# EAGLE library part PINHD-2X14 (library h8-pinhead)
PIN HEADER
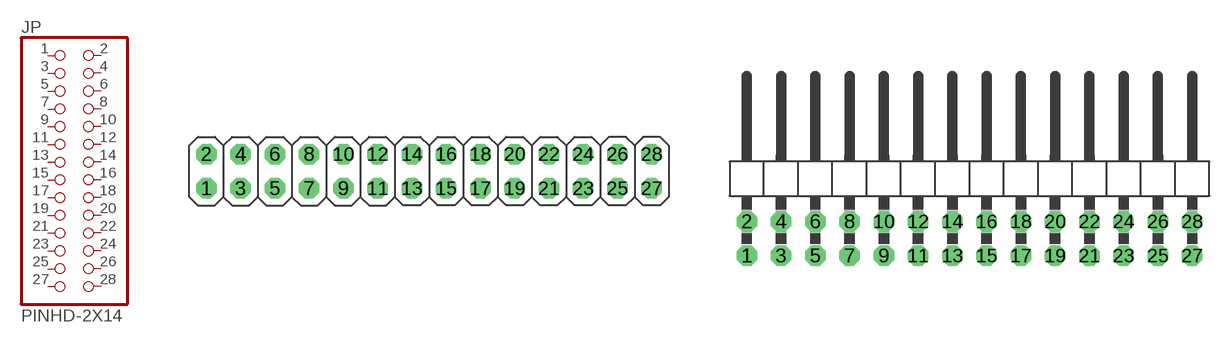
[diagram p9: symbol with the pads of 2X14; footprints 2X14, 2X14/90]

Designator prefix JP

## PINHD-2X14_2.54  [2X14]
1  1  pas
2  2  pas
3  3  pas
4  4  pas
5  5  pas
6  6  pas
7  7  pas
8  8  pas
9  9  pas
10  10  pas
11  11  pas
12  12  pas
13  13  pas
14  14  pas
15  15  pas
16  16  pas
17  17  pas
18  18  pas
19  19  pas
20  20  pas
21  21  pas
22  22  pas
23  23  pas
24  24  pas
25  25  pas
26  26  pas
27  27  pas
28  28  pas

## PINHD-2X14_2.54-90°  [2X14/90]
Pads as for 2X14

## PINHD-2X14_2.00  [2X14M]
Pads as for 2X14

## PINHD-2X14_2.54-SMD  [2X14SMD]
Pads as for 2X14

## PINHD-2X14_2.54-SMD-90°  [2X14SMD/90]
Pads as for 2X14

## Footprint 2X14 (pad centres in mm)
PIN HEADER - 2.54
drill 1.016 octagon: 1 -16.51,-1.27; 2 -16.51,1.27; 3 -13.97,-1.27; 4 -13.97,1.27; 5 -11.43,-1.27; 6 -11.43,1.27; 7 -8.89,-1.27; 8 -8.89,1.27; 9 -6.35,-1.27; 10 -6.35,1.27; 11 -3.81,-1.27; 12 -3.81,1.27; 13 -1.27,-1.27; 14 -1.27,1.27; 15 1.27,-1.27; 16 1.27,1.27; 17 3.81,-1.27; 18 3.81,1.27; 19 6.35,-1.27; 20 6.35,1.27; 21 8.89,-1.27; 22 8.89,1.27; 23 11.43,-1.27; 24 11.43,1.27; 25 13.97,-1.27; 26 13.97,1.27; 27 16.51,-1.27; 28 16.51,1.27

## Footprint 2X14/90 (pad centres in mm)
PIN HEADER - 2.54 90°
drill 1.016 octagon: 1 -16.51,-6.35; 2 -16.51,-3.81; 3 -13.97,-6.35; 4 -13.97,-3.81; 5 -11.43,-6.35; 6 -11.43,-3.81; 7 -8.89,-6.35; 8 -8.89,-3.81; 9 -6.35,-6.35; 10 -6.35,-3.81; 11 -3.81,-6.35; 12 -3.81,-3.81; 13 -1.27,-6.35; 14 -1.27,-3.81; 15 1.27,-6.35; 16 1.27,-3.81; 17 3.81,-6.35; 18 3.81,-3.81; 19 6.35,-6.35; 20 6.35,-3.81; 21 8.89,-6.35; 22 8.89,-3.81; 23 11.43,-6.35; 24 11.43,-3.81; 25 13.97,-6.35; 26 13.97,-3.81; 27 16.51,-6.35; 28 16.51,-3.81

## Footprint 2X14M (pad centres in mm)
PIN HEADER - 2
drill 0.914 square: 1 -13,-1
drill 0.914: 2 -13,1; 3 -11,-1; 4 -11,1; 5 -9,-1; 6 -9,1; 7 -7,-1; 8 -7,1; 9 -5,-1; 10 -5,1; 11 -3,-1; 12 -3,1; 13 -1,-1; 14 -1,1; 15 1,-1; 16 1,1; 17 3,-1; 18 3,1; 19 5,-1; 20 5,1; 21 7,-1; 22 7,1; 23 9,-1; 24 9,1; 25 11,-1; 26 11,1; 27 13,-1; 28 13,1

## Footprint 2X14SMD (pad centres in mm)
PIN HEADER - 2.54 SMD
smd 1.016 x 3.302: 1 -1.27,-3.81; 2 -1.27,1.27; 3 1.27,-3.81; 4 1.27,1.27; 5 3.81,-3.81; 6 3.81,1.27; 7 6.35,-3.81; 8 6.35,1.27; 9 8.89,-3.81; 10 8.89,1.27; 11 11.43,-3.81; 12 11.43,1.27; 13 13.97,-3.81; 14 13.97,1.27; 15 16.51,-3.81; 16 16.51,1.27; 17 19.05,-3.81; 18 19.05,1.27; 19 21.59,-3.81; 20 21.59,1.27; 21 24.13,-3.81; 22 24.13,1.27; 23 26.67,-3.81; 24 26.67,1.27; 25 29.21,-3.81; 26 29.21,1.27; 27 31.75,-3.81; 28 31.75,1.27

## Footprint 2X14SMD/90 (pad centres in mm)
PIN HEADER - 2.54 90°
smd 1.016 x 1.778: 1 -1.27,-8.89; 2 -1.27,-5.08; 3 1.27,-8.89; 4 1.27,-5.08; 5 3.81,-8.89; 6 3.81,-5.08; 7 6.35,-8.89; 8 6.35,-5.08; 9 8.89,-8.89; 10 8.89,-5.08; 11 11.43,-8.89; 12 11.43,-5.08; 13 13.97,-8.89; 14 13.97,-5.08; 15 16.51,-8.89; 16 16.51,-5.08; 17 19.05,-8.89; 18 19.05,-5.08; 19 21.59,-8.89; 20 21.59,-5.08; 21 24.13,-8.89; 22 24.13,-5.08; 23 26.67,-8.89; 24 26.67,-5.08; 25 29.21,-8.89; 26 29.21,-5.08; 27 31.75,-8.89; 28 31.75,-5.08